# Altium schematic symbol library Gowin.SchLib: 4 symbols
Pins are listed as number, name and electrical type; pins without a type are passive.

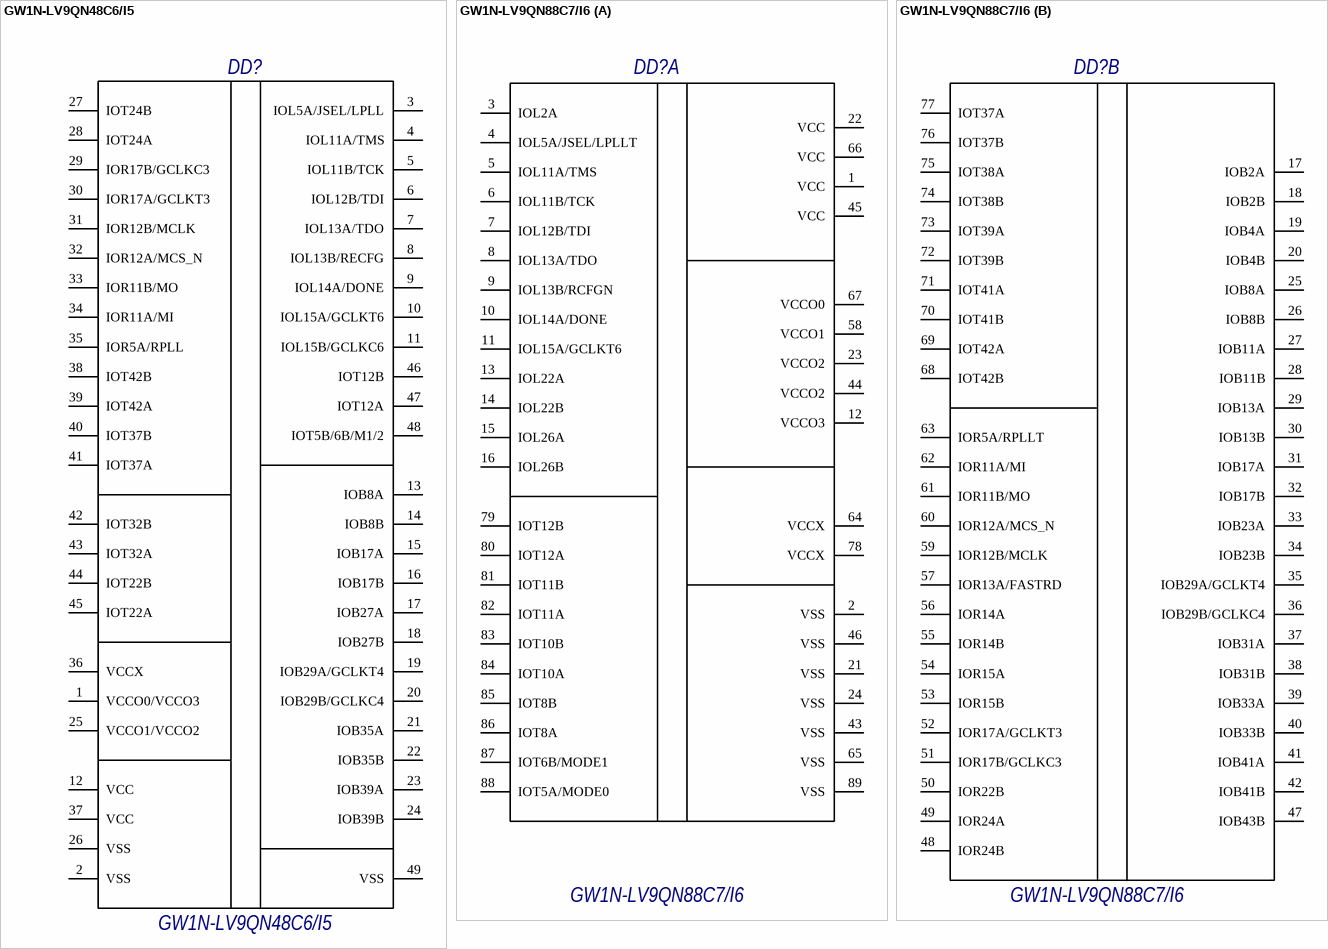
[diagram p0: symbols GW1N-LV9QN48C6/I5 to GW1N-LV9QN88C7/I6]

## GW1N-LV9QN48C6/I5
designator DD?, comment PartNumber: GW1N-LV9QN48C6/I5  (hidden comment: Микросхема GW1N-LV9QN48C6/I5 фирма "Gowin Semiconductor")
FPGA; GOST: Микросхема GW1N-LV9QN48C6/I5 фирма "Gowin Semiconductor"
footprint QFN40P600X600X60-49N (6mm x 6mm x 0.85mm, pitch 0.4mm (for Gowin GW1N-UV9QN48C6/I5))
pins: 1 VCCO0/VCCO3, 2 VSS, 3 IOL5A/JSEL/LPLL, 4 IOL11A/TMS, 5 IOL11B/TCK, 6 IOL12B/TDI, 7 IOL13A/TDO, 8 IOL13B/RECFG, 9 IOL14A/DONE, 10 IOL15A/GCLKT6, 11 IOL15B/GCLKC6, 12 VCC, 13 IOB8A, 14 IOB8B, 15 IOB17A, 16 IOB17B, 17 IOB27A, 18 IOB27B, 19 IOB29A/GCLKT4, 20 IOB29B/GCLKC4, 21 IOB35A, 22 IOB35B, 23 IOB39A, 24 IOB39B, 25 VCCO1/VCCO2, 26 VSS, 27 IOT24B, 28 IOT24A, 29 IOR17B/GCLKC3, 30 IOR17A/GCLKT3, 31 IOR12B/MCLK, 32 IOR12A/MCS_N, 33 IOR11B/MO, 34 IOR11A/MI, 35 IOR5A/RPLL, 36 VCCX, 37 VCC, 38 IOT42B, 39 IOT42A, 40 IOT37B, 41 IOT37A, 42 IOT32B, 43 IOT32A, 44 IOT22B, 45 IOT22A, 46 IOT12B, 47 IOT12A, 48 IOT5B/6B/M1/2, 49 VSS

## GW1N-LV9QN88C7/I6
designator DD?, comment PartNumber: GW1N-LV9QN88C7/I6  (hidden comment: Микросхема GW1N-LV9QN88C7/I6 фирма "Gowin Semiconductor")
FPGA; GOST: Микросхема GW1N-LV9QN88C7/I6 фирма "Gowin Semiconductor"
footprint QFN40P1000X1000X9-89N (10mm x 10mm x 0.9mm, pitch 0.4mm (for Gowin))
part A pins: 1 VCC, 2 VSS, 3 IOL2A, 4 IOL5A/JSEL/LPLLT, 5 IOL11A/TMS, 6 IOL11B/TCK, 7 IOL12B/TDI, 8 IOL13A/TDO, 9 IOL13B/RCFGN, 10 IOL14A/DONE, 11 IOL15A/GCLKT6, 12 VCCO3, 13 IOL22A, 14 IOL22B, 15 IOL26A, 16 IOL26B, 21 VSS, 22 VCC, 23 VCCO2, 24 VSS, 43 VSS, 44 VCCO2, 45 VCC, 46 VSS, 58 VCCO1, 64 VCCX, 65 VSS, 66 VCC, 67 VCCO0, 78 VCCX, 79 IOT12B, 80 IOT12A, 81 IOT11B, 82 IOT11A, 83 IOT10B, 84 IOT10A, 85 IOT8B, 86 IOT8A, 87 IOT6B/MODE1, 88 IOT5A/MODE0, 89 VSS
part B pins: 17 IOB2A, 18 IOB2B, 19 IOB4A, 20 IOB4B, 25 IOB8A, 26 IOB8B, 27 IOB11A, 28 IOB11B, 29 IOB13A, 30 IOB13B, 31 IOB17A, 32 IOB17B, 33 IOB23A, 34 IOB23B, 35 IOB29A/GCLKT4, 36 IOB29B/GCLKC4, 37 IOB31A, 38 IOB31B, 39 IOB33A, 40 IOB33B, 41 IOB41A, 42 IOB41B, 47 IOB43B, 48 IOR24B, 49 IOR24A, 50 IOR22B, 51 IOR17B/GCLKC3, 52 IOR17A/GCLKT3, 53 IOR15B, 54 IOR15A, 55 IOR14B, 56 IOR14A, 57 IOR13A/FASTRD, 59 IOR12B/MCLK, 60 IOR12A/MCS_N, 61 IOR11B/MO, 62 IOR11A/MI, 63 IOR5A/RPLLT, 68 IOT42B, 69 IOT42A, 70 IOT41B, 71 IOT41A, 72 IOT39B, 73 IOT39A, 74 IOT38B, 75 IOT38A, 76 IOT37B, 77 IOT37A

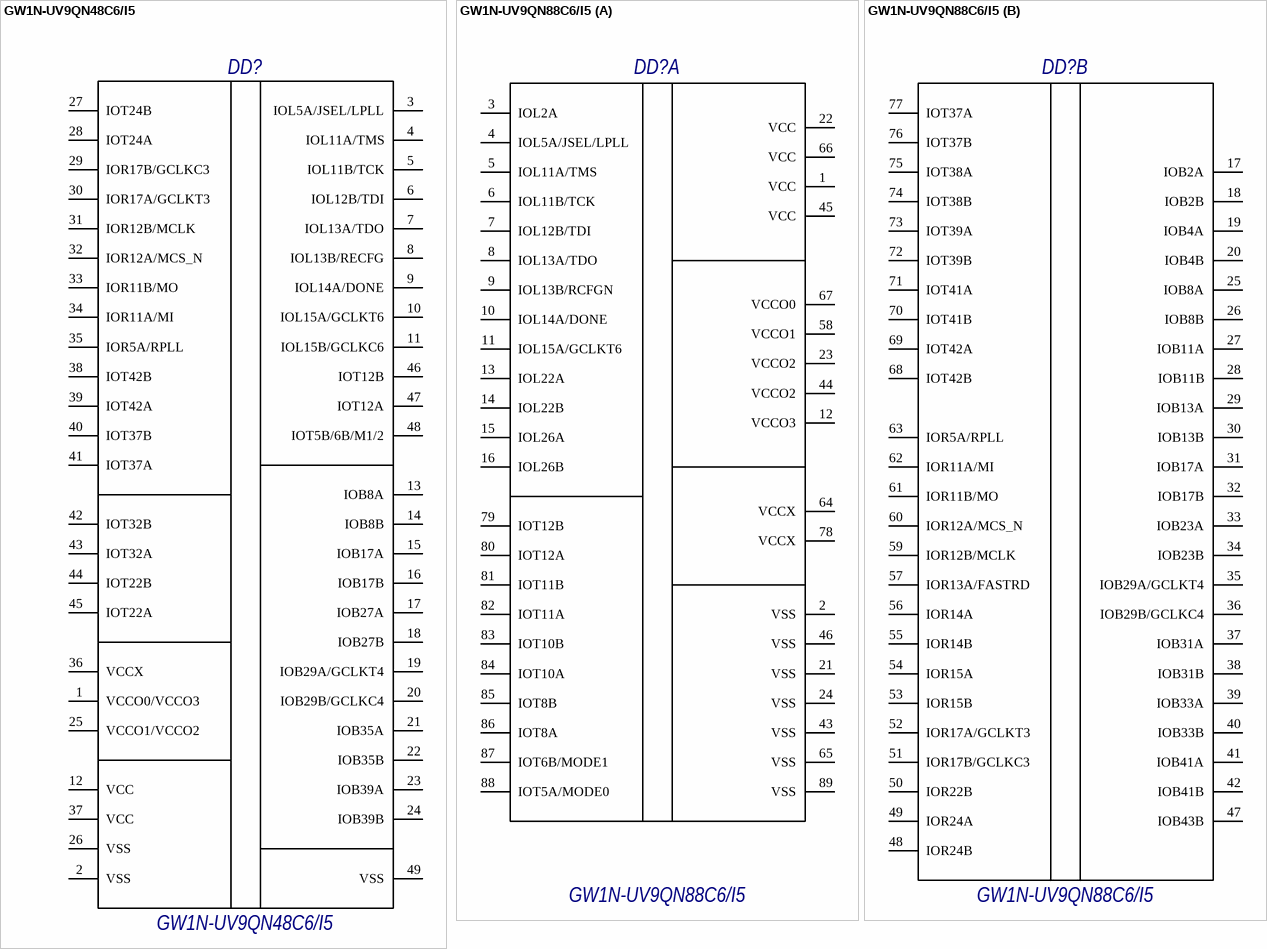
[diagram p1: symbols GW1N-UV9QN48C6/I5 to GW1N-UV9QN88C6/I5]

## GW1N-UV9QN48C6/I5
designator DD?, comment PartNumber: GW1N-UV9QN48C6/I5  (hidden comment: Микросхема GW1N-UV9QN48C6/I5 фирма "Gowin Semiconductor")
FPGA; GOST: Микросхема GW1N-UV9QN48C6/I5 фирма "Gowin Semiconductor"
footprint QFN40P600X600X60-49N (6mm x 6mm x 0.85mm, pitch 0.4mm (for Gowin GW1N-UV9QN48C6/I5))
pins: 1 VCCO0/VCCO3, 2 VSS, 3 IOL5A/JSEL/LPLL, 4 IOL11A/TMS, 5 IOL11B/TCK, 6 IOL12B/TDI, 7 IOL13A/TDO, 8 IOL13B/RECFG, 9 IOL14A/DONE, 10 IOL15A/GCLKT6, 11 IOL15B/GCLKC6, 12 VCC, 13 IOB8A, 14 IOB8B, 15 IOB17A, 16 IOB17B, 17 IOB27A, 18 IOB27B, 19 IOB29A/GCLKT4, 20 IOB29B/GCLKC4, 21 IOB35A, 22 IOB35B, 23 IOB39A, 24 IOB39B, 25 VCCO1/VCCO2, 26 VSS, 27 IOT24B, 28 IOT24A, 29 IOR17B/GCLKC3, 30 IOR17A/GCLKT3, 31 IOR12B/MCLK, 32 IOR12A/MCS_N, 33 IOR11B/MO, 34 IOR11A/MI, 35 IOR5A/RPLL, 36 VCCX, 37 VCC, 38 IOT42B, 39 IOT42A, 40 IOT37B, 41 IOT37A, 42 IOT32B, 43 IOT32A, 44 IOT22B, 45 IOT22A, 46 IOT12B, 47 IOT12A, 48 IOT5B/6B/M1/2, 49 VSS

## GW1N-UV9QN88C6/I5
designator DD?, comment PartNumber: GW1N-UV9QN88C6/I5  (hidden comment: Микросхема GW1N-UV9QN88C6/I5 фирма "Gowin Semiconductor")
FPGA; GOST: Микросхема GW1N-UV9QN88C6/I5 фирма "Gowin Semiconductor"
footprint QFN40P1000X1000X9-89N (10mm x 10mm x 0.9mm, pitch 0.4mm (for Gowin))
part A pins: 1 VCC, 2 VSS, 3 IOL2A, 4 IOL5A/JSEL/LPLL, 5 IOL11A/TMS, 6 IOL11B/TCK, 7 IOL12B/TDI, 8 IOL13A/TDO, 9 IOL13B/RCFGN, 10 IOL14A/DONE, 11 IOL15A/GCLKT6, 12 VCCO3, 13 IOL22A, 14 IOL22B, 15 IOL26A, 16 IOL26B, 21 VSS, 22 VCC, 23 VCCO2, 24 VSS, 43 VSS, 44 VCCO2, 45 VCC, 46 VSS, 58 VCCO1, 64 VCCX, 65 VSS, 66 VCC, 67 VCCO0, 78 VCCX, 79 IOT12B, 80 IOT12A, 81 IOT11B, 82 IOT11A, 83 IOT10B, 84 IOT10A, 85 IOT8B, 86 IOT8A, 87 IOT6B/MODE1, 88 IOT5A/MODE0, 89 VSS
part B pins: 17 IOB2A, 18 IOB2B, 19 IOB4A, 20 IOB4B, 25 IOB8A, 26 IOB8B, 27 IOB11A, 28 IOB11B, 29 IOB13A, 30 IOB13B, 31 IOB17A, 32 IOB17B, 33 IOB23A, 34 IOB23B, 35 IOB29A/GCLKT4, 36 IOB29B/GCLKC4, 37 IOB31A, 38 IOB31B, 39 IOB33A, 40 IOB33B, 41 IOB41A, 42 IOB41B, 47 IOB43B, 48 IOR24B, 49 IOR24A, 50 IOR22B, 51 IOR17B/GCLKC3, 52 IOR17A/GCLKT3, 53 IOR15B, 54 IOR15A, 55 IOR14B, 56 IOR14A, 57 IOR13A/FASTRD, 59 IOR12B/MCLK, 60 IOR12A/MCS_N, 61 IOR11B/MO, 62 IOR11A/MI, 63 IOR5A/RPLL, 68 IOT42B, 69 IOT42A, 70 IOT41B, 71 IOT41A, 72 IOT39B, 73 IOT39A, 74 IOT38B, 75 IOT38A, 76 IOT37B, 77 IOT37A